# Altium footprint library HARTING Footprints.PcbLib: 317 footprints (part 6 of 20)
Each footprint in its own frame and in the unit in brackets; x right, y up, seen from the top. Pads: shape width x height; smd on the part's side, far side on the other; paste and mask are expansions set on the pad; w line width, h text height; cw(c..) or ccw(c..) is an arc to the next point about the centre after c.
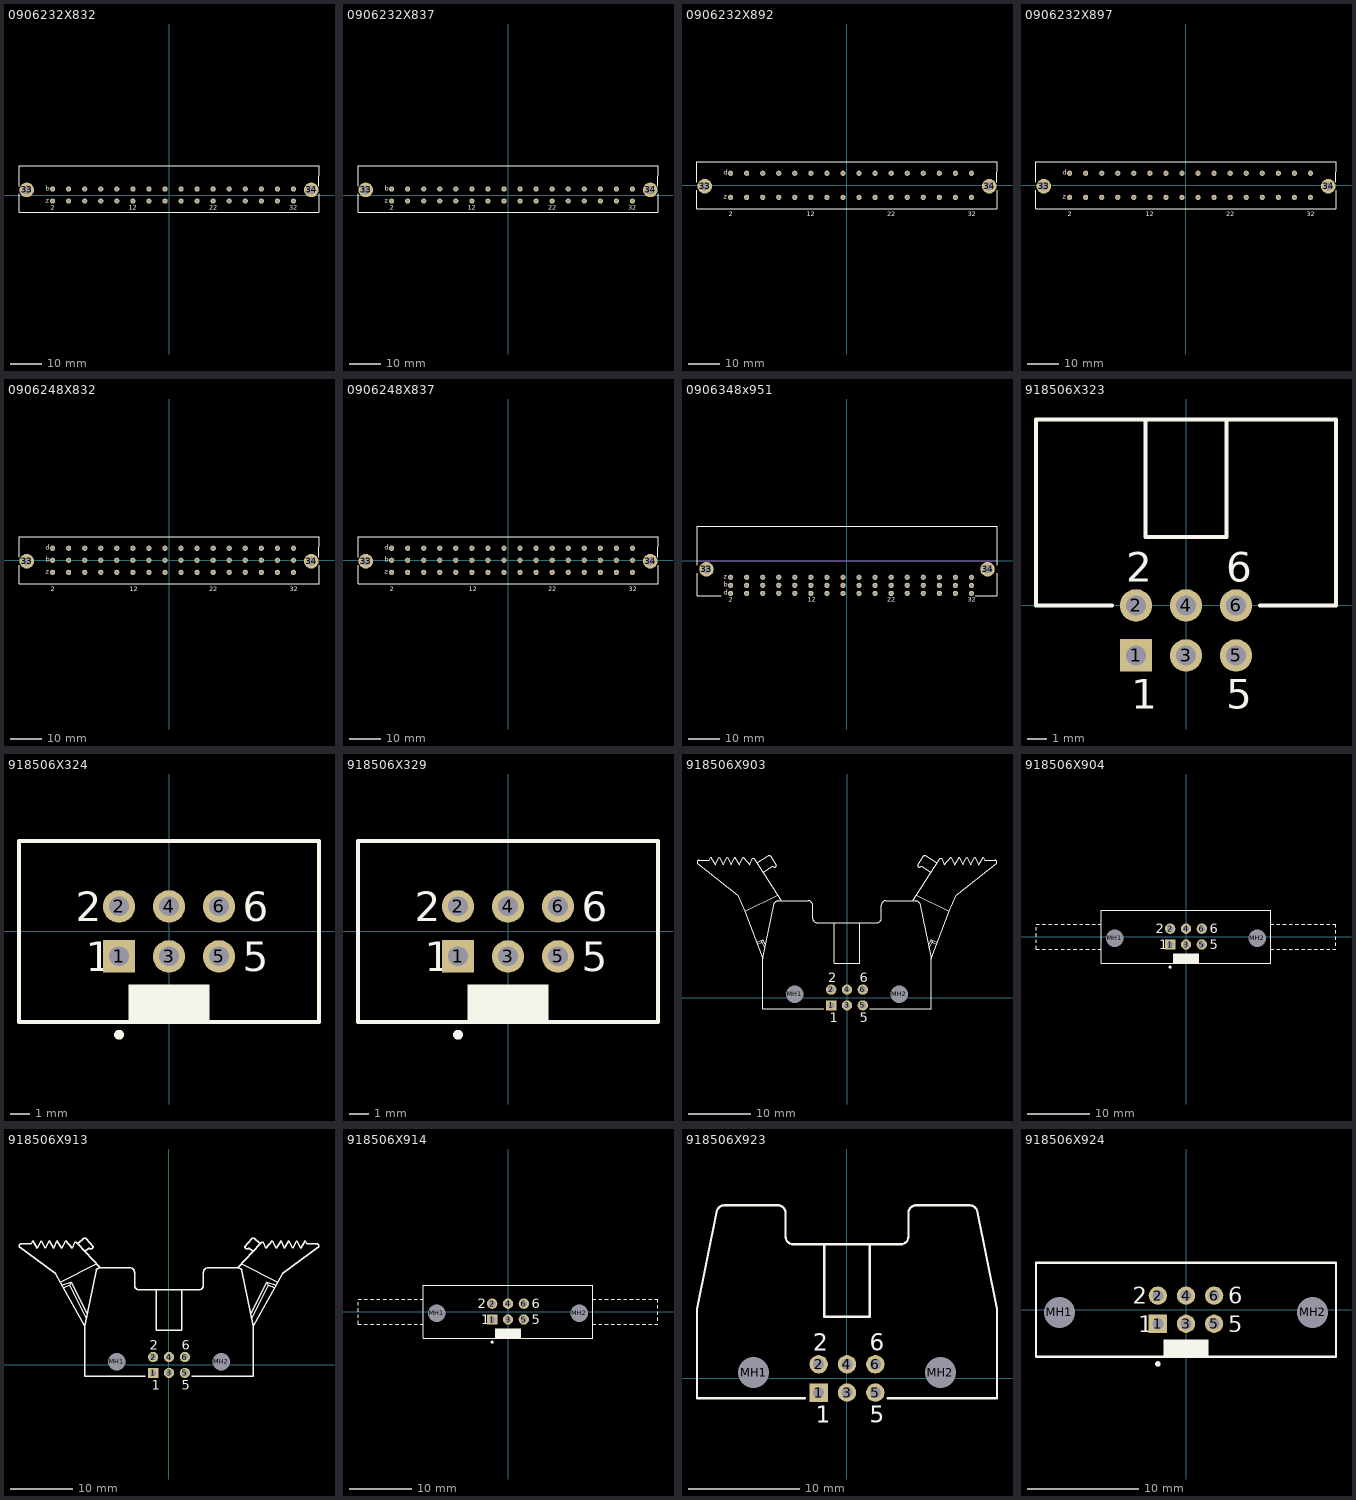
[diagram p5: the footprints below, top view; thin cyan lines are the x and y axes]

## 0906232X832 [mm] "Connector; DIN 41612, Type F, Thru-Hole; Rows z+b, 32 Position; Vertical"
height 10.1
pads (34):
  round 4.6 hole 2.8: 33(-45,1.605) 34(45,1.605)
  round 1.65 hole 1: B2(-36.83,1.905) B4(-31.75,1.905) B6(-26.67,1.905) B8(-21.59,1.905) B10(-16.51,1.905) B12(-11.43,1.905) B14(-6.35,1.905) B16(-1.27,1.905) B18(3.81,1.905) B20(8.89,1.905) B22(13.97,1.905) B24(19.05,1.905) B26(24.13,1.905) B28(29.21,1.905) B30(34.29,1.905) B32(39.37,1.905) Z2(-36.83,-1.905) Z4(-31.75,-1.905) Z6(-26.67,-1.905) Z8(-21.59,-1.905) Z10(-16.51,-1.905) Z12(-11.43,-1.905) Z14(-6.35,-1.905) Z16(-1.27,-1.905) Z18(3.81,-1.905) Z20(8.89,-1.905) Z22(13.97,-1.905) Z24(19.05,-1.905) Z26(24.13,-1.905) Z28(29.21,-1.905) Z30(34.29,-1.905) Z32(39.37,-1.905)
Top Overlay:
  lines w0.2: -47.45,0.405 -47.45,-5.495 47.45,-5.495 47.45,0.405 ; -47.45,2.805 -47.45,9.305 47.45,9.305 47.448,2.805
  text "22" at 12.7,-4.61 h1.5
  text "12" at -12.7,-4.61 h1.5
  text "32" at 38.1,-4.61 h1.5
  text "b" at -39.04,1.405 h1.5
  text "z" at -39.04,-2.405 h1.5
  text "2" at -37.33,-4.61 h1.5

## 0906232X837 [mm] "Connector; DIN 41612, Type F, Thru-Hole; Rows z+b, 32 Position; Vertical"
height 10.1
pads (34):
  round 4.6 hole 2.8: 33(-45,1.605) 34(45,1.605)
  round 1.65 hole 1: B2(-36.83,1.905) B4(-31.75,1.905) B6(-26.67,1.905) B8(-21.59,1.905) B10(-16.51,1.905) B12(-11.43,1.905) B14(-6.35,1.905) B16(-1.27,1.905) B18(3.81,1.905) B20(8.89,1.905) B22(13.97,1.905) B24(19.05,1.905) B26(24.13,1.905) B28(29.21,1.905) B30(34.29,1.905) B32(39.37,1.905) Z2(-36.83,-1.905) Z4(-31.75,-1.905) Z6(-26.67,-1.905) Z8(-21.59,-1.905) Z10(-16.51,-1.905) Z12(-11.43,-1.905) Z14(-6.35,-1.905) Z16(-1.27,-1.905) Z18(3.81,-1.905) Z20(8.89,-1.905) Z22(13.97,-1.905) Z24(19.05,-1.905) Z26(24.13,-1.905) Z28(29.21,-1.905) Z30(34.29,-1.905) Z32(39.37,-1.905)
Top Overlay:
  lines w0.2: -47.45,0.405 -47.45,-5.495 47.45,-5.495 47.45,0.405 ; -47.45,2.805 -47.45,9.305 47.45,9.305 47.448,2.805
  text "22" at 12.7,-4.61 h1.5
  text "12" at -12.7,-4.61 h1.5
  text "32" at 38.1,-4.61 h1.5
  text "b" at -39.04,1.405 h1.5
  text "z" at -39.04,-2.405 h1.5
  text "2" at -37.33,-4.61 h1.5

## 0906232X892 [mm] "Connector; DIN 41612, Type F, Thru-Hole; Rows z+d, 32 Position; Vertical"
height 10.1
pads (34):
  round 4.6 hole 2.8: 33(-45,-0.3) 34(45,-0.3)
  round 1.65 hole 1: D2(-36.83,3.81) D4(-31.75,3.81) D6(-26.67,3.81) D8(-21.59,3.81) D10(-16.51,3.81) D12(-11.43,3.81) D14(-6.35,3.81) D16(-1.27,3.81) D18(3.81,3.81) D20(8.89,3.81) D22(13.97,3.81) D24(19.05,3.81) D26(24.13,3.81) D28(29.21,3.81) D30(34.29,3.81) D32(39.37,3.81) Z2(-36.83,-3.81) Z4(-31.75,-3.81) Z6(-26.67,-3.81) Z8(-21.59,-3.81) Z10(-16.51,-3.81) Z12(-11.43,-3.81) Z14(-6.35,-3.81) Z16(-1.27,-3.81) Z18(3.81,-3.81) Z20(8.89,-3.81) Z22(13.97,-3.81) Z24(19.05,-3.81) Z26(24.13,-3.81) Z28(29.21,-3.81) Z30(34.29,-3.81) Z32(39.37,-3.81)
Top Overlay:
  lines w0.2: -47.45,-1.5 -47.45,-7.4 47.45,-7.4 47.45,-1.5 ; -47.45,0.9 -47.45,7.4 47.45,7.4 47.448,0.9
  text "2" at -37.33,-9.74 h1.5
  text "z" at -39.04,-4.31 h1.5
  text "d" at -39.04,3.31 h1.5
  text "32" at 38.12,-9.74 h1.5
  text "12" at -12.68,-9.74 h1.5
  text "22" at 12.72,-9.74 h1.5

## 0906232X897 [mm] "Connector; DIN 41612, Type F, Thru-Hole; Rows z+d, 32 Position; Vertical"
height 10.1
pads (34):
  round 4.6 hole 2.8: 33(-45,-0.3) 34(45,-0.3)
  round 1.65 hole 1: D2(-36.83,3.81) D4(-31.75,3.81) D6(-26.67,3.81) D8(-21.59,3.81) D10(-16.51,3.81) D12(-11.43,3.81) D14(-6.35,3.81) D16(-1.27,3.81) D18(3.81,3.81) D20(8.89,3.81) D22(13.97,3.81) D24(19.05,3.81) D26(24.13,3.81) D28(29.21,3.81) D30(34.29,3.81) D32(39.37,3.81) Z2(-36.83,-3.81) Z4(-31.75,-3.81) Z6(-26.67,-3.81) Z8(-21.59,-3.81) Z10(-16.51,-3.81) Z12(-11.43,-3.81) Z14(-6.35,-3.81) Z16(-1.27,-3.81) Z18(3.81,-3.81) Z20(8.89,-3.81) Z22(13.97,-3.81) Z24(19.05,-3.81) Z26(24.13,-3.81) Z28(29.21,-3.81) Z30(34.29,-3.81) Z32(39.37,-3.81)
Top Overlay:
  lines w0.2: -47.45,-1.5 -47.45,-7.4 47.45,-7.4 47.45,-1.5 ; -47.45,0.9 -47.45,7.4 47.45,7.4 47.448,0.9
  text "2" at -37.33,-9.74 h1.5
  text "z" at -39.04,-4.31 h1.5
  text "d" at -39.04,3.31 h1.5
  text "32" at 38.12,-9.74 h1.5
  text "12" at -12.68,-9.74 h1.5
  text "22" at 12.72,-9.74 h1.5

## 0906248X832 [mm] "Connector; DIN 41612, Type F, Thru-Hole; Rows z+b+d, 48 Position; Vertical"
height 10.1
pads (50):
  round 4.6 hole 2.8: 33(-45,-0.3) 34(45,-0.3)
  round 1.65 hole 1: B2(-36.83,0) B4(-31.75,0) B6(-26.67,0) B8(-21.59,0) B10(-16.51,0) B12(-11.43,0) B14(-6.35,0) B16(-1.27,0) B18(3.81,0) B20(8.89,0) B22(13.97,0) B24(19.05,0) B26(24.13,0) B28(29.21,0) B30(34.29,0) B32(39.37,0) D2(-36.83,3.81) D4(-31.75,3.81) D6(-26.67,3.81) D8(-21.59,3.81) D10(-16.51,3.81) D12(-11.43,3.81) D14(-6.35,3.81) D16(-1.27,3.81) D18(3.81,3.81) D20(8.89,3.81) D22(13.97,3.81) D24(19.05,3.81) D26(24.13,3.81) D28(29.21,3.81) D30(34.29,3.81) D32(39.37,3.81) Z2(-36.83,-3.81) Z4(-31.75,-3.81) Z6(-26.67,-3.81) Z8(-21.59,-3.81) Z10(-16.51,-3.81) Z12(-11.43,-3.81) Z14(-6.35,-3.81) Z16(-1.27,-3.81) Z18(3.81,-3.81) Z20(8.89,-3.81) Z22(13.97,-3.81) Z24(19.05,-3.81) Z26(24.13,-3.81) Z28(29.21,-3.81) Z30(34.29,-3.81) Z32(39.37,-3.81)
Top Overlay:
  lines w0.2: -47.45,-1.5 -47.45,-7.4 47.45,-7.4 47.45,-1.5 ; -47.45,0.9 -47.45,7.4 47.45,7.4 47.447,0.9
  text "2" at -37.33,-9.74 h1.5
  text "z" at -39.04,-4.31 h1.5
  text "b" at -39.04,-0.5 h1.5
  text "d" at -39.04,3.31 h1.5
  text "32" at 38.12,-9.74 h1.5
  text "12" at -12.43,-9.74 h1.5
  text "22" at 12.72,-9.74 h1.5

## 0906248X837 [mm] "Connector; DIN 41612, Type F, Thru-Hole; Rows z+b+d, 48 Position; Vertical"
height 10.1
pads (50):
  round 4.6 hole 2.8: 33(-45,-0.3) 34(45,-0.3)
  round 1.65 hole 1: B2(-36.83,0) B4(-31.75,0) B6(-26.67,0) B8(-21.59,0) B10(-16.51,0) B12(-11.43,0) B14(-6.35,0) B16(-1.27,0) B18(3.81,0) B20(8.89,0) B22(13.97,0) B24(19.05,0) B26(24.13,0) B28(29.21,0) B30(34.29,0) B32(39.37,0) D2(-36.83,3.81) D4(-31.75,3.81) D6(-26.67,3.81) D8(-21.59,3.81) D10(-16.51,3.81) D12(-11.43,3.81) D14(-6.35,3.81) D16(-1.27,3.81) D18(3.81,3.81) D20(8.89,3.81) D22(13.97,3.81) D24(19.05,3.81) D26(24.13,3.81) D28(29.21,3.81) D30(34.29,3.81) D32(39.37,3.81) Z2(-36.83,-3.81) Z4(-31.75,-3.81) Z6(-26.67,-3.81) Z8(-21.59,-3.81) Z10(-16.51,-3.81) Z12(-11.43,-3.81) Z14(-6.35,-3.81) Z16(-1.27,-3.81) Z18(3.81,-3.81) Z20(8.89,-3.81) Z22(13.97,-3.81) Z24(19.05,-3.81) Z26(24.13,-3.81) Z28(29.21,-3.81) Z30(34.29,-3.81) Z32(39.37,-3.81)
Top Overlay:
  lines w0.2: -47.45,-1.5 -47.45,-7.4 47.45,-7.4 47.45,-1.5 ; -47.45,0.9 -47.45,7.4 47.45,7.4 47.447,0.9
  text "2" at -37.33,-9.74 h1.5
  text "z" at -39.04,-4.31 h1.5
  text "b" at -39.04,-0.5 h1.5
  text "d" at -39.04,3.31 h1.5
  text "32" at 38.12,-9.74 h1.5
  text "12" at -12.43,-9.74 h1.5
  text "22" at 12.72,-9.74 h1.5

## 0906348x951 [mm] "Connector; DIN 41612, Type F, Thru-Hole; Rows z+b+d, 48 Position; Right Angle"
height 14.8
pads (50):
  round 4.6 hole 2.8: 33(-44.45,-2.76) 34(44.45,-2.76)
  round 1.65 hole 1: B2(-36.83,-7.84) B4(-31.75,-7.84) B6(-26.67,-7.84) B8(-21.59,-7.84) B10(-16.51,-7.84) B12(-11.43,-7.84) B14(-6.35,-7.84) B16(-1.27,-7.84) B18(3.81,-7.84) B20(8.89,-7.84) B22(13.97,-7.84) B24(19.05,-7.84) B26(24.13,-7.84) B28(29.21,-7.84) B30(34.29,-7.84) B32(39.37,-7.84) D2(-36.83,-10.38) D4(-31.75,-10.38) D6(-26.67,-10.38) D8(-21.59,-10.38) D10(-16.51,-10.38) D12(-11.43,-10.38) D14(-6.35,-10.38) D16(-1.27,-10.38) D18(3.81,-10.38) D20(8.89,-10.38) D22(13.97,-10.38) D24(19.05,-10.38) D26(24.13,-10.38) D28(29.21,-10.38) D30(34.29,-10.38) D32(39.37,-10.38) Z2(-36.83,-5.3) Z4(-31.75,-5.3) Z6(-26.67,-5.3) Z8(-21.59,-5.3) Z10(-16.51,-5.3) Z12(-11.43,-5.3) Z14(-6.35,-5.3) Z16(-1.27,-5.3) Z18(3.81,-5.3) Z20(8.89,-5.3) Z22(13.97,-5.3) Z24(19.05,-5.3) Z26(24.13,-5.3) Z28(29.21,-5.3) Z30(34.29,-5.3) Z32(39.37,-5.3)
Top Overlay:
  lines w0.2: -47.45,-3.96 -47.45,-11.2 -39.7,-11.2 ; -47.449,-1.56 -47.449,10.9 47.45,10.9 47.45,-1.56 ; 40.595,-11.2 47.45,-11.2 47.45,-3.96
  text "2" at -37.33,-13.08 h1.5
  text "z" at -39.04,-5.8 h1.5
  text "b" at -39.04,-8.34 h1.5
  text "d" at -39.04,-10.88 h1.5
  text "32" at 38.12,-13.08 h1.5
  text "12" at -12.43,-13.08 h1.5
  text "22" at 12.72,-13.08 h1.5
Mechanical 1:
  lines w0.1: -47.45,0 47.45,0
  text "PCB Edge" at -46.47,0.5 h0.6

## 918506X323 [mm] "Connector; IDC, Low Profile Male Header, Thru-Hole; 6 Position; Right Angle; Pitch 2.54 mm; Body 15.24 x 8.9 x 9.2 mm (LxWxH)"
height 9.2
pads (6):
  rect 1.65x1.65 hole 1: 1(-2.54,-2.54)
  round 1.65 hole 1: 2(-2.54,0) 3(0,-2.54) 4(0,0) 5(2.54,-2.54) 6(2.54,0)
Top Overlay:
  lines w0.2: -3.765,0 -7.62,0 -7.62,9.45 7.62,9.45 7.62,0 3.765,0 ; -2.05,9.45 -2.05,3.48 2.05,3.48 2.05,9.45
  text "5" at 2.04,-5.24 h1.5
  text "6" at 2.04,1.2 h1.5
  text "1" at -2.79,-5.24 h1.5
  text "2" at -3.04,1.2 h1.5

## 918506X324 [mm] "Connector; IDC, Low Profile Male Header, Thru-Hole; 6 Position; Vertical; Pitch 2.54 mm; Body 15.24 x 9.2 x 9.45 mm (LxWxH)"
height 9.45
pads (6):
  rect 1.65x1.65 hole 1: 1(-2.54,-1.27)
  round 1.65 hole 1: 2(-2.54,1.27) 3(0,-1.27) 4(0,1.27) 5(2.54,-1.27) 6(2.54,1.27)
Top Overlay:
  circle w0.25: c-2.54,-5.25 r0.125
  rectangle: -2.05,-4.6 2.05,-2.7
  lines w0.2: -7.62,-4.6 7.62,-4.6 7.62,4.6 -7.62,4.6 -7.62,-4.6
  text "5" at 3.74,-2.02 h1.5
  text "6" at 3.74,0.52 h1.5
  text "1" at -4.24,-2.02 h1.5
  text "2" at -4.74,0.52 h1.5

## 918506X329 [mm] "Connector; IDC, Straight Press-in Pin, Thru-Hole; 6 Position; Vertical; Pitch 2.54 mm; Body 15.24 x 9.2 x 9.45 mm (LxWxH)"
height 9.45
pads (6):
  rect 1.65x1.65 hole 1: 1(-2.54,-1.27)
  round 1.65 hole 1: 2(-2.54,1.27) 3(0,-1.27) 4(0,1.27) 5(2.54,-1.27) 6(2.54,1.27)
Top Overlay:
  circle w0.25: c-2.54,-5.25 r0.125
  rectangle: -2.05,-4.6 2.05,-2.7
  lines w0.2: -7.62,-4.6 7.62,-4.6 7.62,4.6 -7.62,4.6 -7.62,-4.6
  text "5" at 3.74,-2.02 h1.5
  text "6" at 3.74,0.52 h1.5
  text "1" at -4.24,-2.02 h1.5
  text "2" at -4.74,0.52 h1.5

## 918506X903 [mm] "Connector; IDC, Thru-Hole; 6 Position; Right Angle; Pitch 2.54 mm; Body 27.10 x 8.5 x 25.75 mm (LxHxW), Locking levers"
height 25.75
pads (8):
  rect 1.65x1.65 hole 1: 1(-2.54,-1.27)
  round 1.65 hole 1: 2(-2.54,1.27) 3(0,-1.27) 4(0,1.27) 5(2.54,-1.27) 6(2.54,1.27)
  round 2.5 hole 2.8 unplated: MH1(-8.38,0.53) MH2(8.38,0.53)
Top Overlay:
  lines w0.2: -14.52,8.851 -13.555,9.3 ; -14.391,8.563 -13.72,8.877 ; -14.385,21.6 -12.662,22.725 cw(c-12.513,22.387) -12.247,22.644 -11.322,21.245 cw(c-11.642,21.225) -11.694,20.91 ccw(c-11.962,20.595) -12.097,20.985 ; -13.463,20.103 -12.1,20.991 ; -13.193,7.925 -13.72,8.877 ; -13.093,8.378 -13.555,9.3 ; -11.165,16.383 -16.389,13.84 ; -10.594,15.53 -14.728,22.058 ccw(c-15.051,21.956) -15.193,22.265 -15.6,21.301 -16.63,22.501 -17.26,21.301 -18.01,22.501 -18.56,21.301 -19.26,22.501 -19.88,21.301 -20.53,22.501 -21.13,21.301 -21.875,22.501 ; -3.765,-1.77 -13.55,-1.77 -13.55,6.23 ; -2.05,5.53 -2.05,12.03 ; -2.04,5.53 2.06,5.53 ; 2.05,5.534 2.05,12.03 ; 3.65,-1.77 13.55,-1.77 13.55,6.23 ; 10.594,15.53 14.728,22.058 cw(c15.051,21.956) 15.193,22.265 15.6,21.301 16.63,22.501 17.26,21.301 18.01,22.501 18.56,21.301 19.26,22.501 19.88,21.301 20.53,22.501 21.13,21.301 21.875,22.501 ; 11.165,16.383 16.389,13.84 ; 12.097,20.985 ccw(c11.962,20.595) 11.694,20.91 cw(c11.642,21.225) 11.322,21.245 12.247,22.644 cw(c12.513,22.387) 12.662,22.725 14.385,21.6 ; 12.1,20.991 13.463,20.103 ; 13.093,8.378 13.555,9.3 ; 13.193,7.925 13.72,8.877 ; 14.391,8.563 13.72,8.877 ; 14.52,8.851 13.555,9.3 ; -22.13,22.03 -21.875,22.501 ; -22.13,22.03 -21.875,22.501 ; -22.13,22.03 -23.741,22.03 ccw(c-23.741,21.69) -24.05,21.549 -17.515,16.455 -16.389,13.84 ; -16.389,13.84 -13.55,6.23 ; -13.72,8.877 -13.555,9.3 ; -13.55,6.23 -11.647,15.097 cw(c-11,14.83) -11,15.53 -6.21,15.53 cw(c-6.21,14.83) -5.51,14.83 -5.51,12.73 ccw(c-4.81,12.73) -4.81,12.03 4.81,12.03 ccw(c4.81,12.73) 5.51,12.73 5.51,14.83 cw(c6.21,14.83) 6.21,15.53 11,15.53 cw(c11,14.83) 11.647,15.097 13.55,6.23 ; 13.55,6.23 16.389,13.84 ; 13.555,9.3 13.72,8.877 ; 16.389,13.84 17.515,16.455 24.05,21.549 ccw(c23.741,21.69) 23.741,22.03 22.13,22.03 ; 21.875,22.501 22.13,22.03 ; 21.875,22.501 22.13,22.03
  text "2" at -3.04,2.47 h1.5
  text "1" at -2.79,-3.97 h1.5
  text "6" at 2.04,2.47 h1.5
  text "5" at 2.04,-3.97 h1.5

## 918506X904 [mm] "Connector; IDC, Thru-Hole; 6 Position; Vertical; Pitch 2.54 mm; Body 27.10 x 8.5 x 25.75 mm (LxWxH), Locking levers"
height 25.75
pads (8):
  rect 1.65x1.65 hole 1: 1(-2.54,-1.27)
  round 1.65 hole 1: 2(-2.54,1.27) 3(0,-1.27) 4(0,1.27) 5(2.54,-1.27) 6(2.54,1.27)
  round 2.5 hole 2.8 unplated: MH1(-11.43,-0.25) MH2(11.43,-0.25)
Top Overlay:
  circle w0.25: c-2.54,-4.9 r0.125
  rectangle: -2.05,-4.25 2.05,-2.7
  lines w0.2: -24.05,-1 -24.05,-0.5 ; -24.05,0 -24.05,0.5 ; -24.05,1 -24.05,1.5 ; -24.05,2 -23.54,2 ; -24.04,-1.5 -24.05,-2 -23.54,-2 ; -23.04,-2 -22.54,-2 ; -23.04,2 -22.54,2 ; -22.04,-2 -21.54,-2 ; -22.04,2 -21.54,2 ; -21.04,-2 -20.54,-2 ; -21.04,2 -20.54,2 ; -20.04,-2 -19.54,-2 ; -20.04,2 -19.54,2 ; -19.04,-2 -18.54,-2 ; -19.04,2 -18.54,2 ; -18.04,-2 -17.54,-2 ; -18.04,2 -17.54,2 ; -17.04,-2 -16.54,-2 ; -17.04,2 -16.54,2 ; -16.04,-2 -15.54,-2 ; -16.04,2 -15.54,2 ; -15.04,-2 -14.54,-2 ; -15.04,2 -14.54,2 ; -14.04,-2 -13.55,-2 ; -14.04,2 -13.55,2 ; 13.55,-2 14.05,-2 ; 13.55,2 14.05,2 ; 14.55,-2 15.05,-2 ; 14.55,2 15.05,2 ; 15.55,-2 16.05,-2 ; 15.55,2 16.05,2 ; 16.55,-2 17.05,-2 ; 16.55,2 17.05,2 ; 17.55,-2 18.05,-2 ; 17.55,2 18.05,2 ; 18.55,-2 19.05,-2 ; 18.55,2 19.05,2 ; 19.55,-2 20.05,-2 ; 19.55,2 20.05,2 ; 20.55,-2 21.05,-2 ; 20.55,2 21.05,2 ; 21.55,-2 22.05,-2 ; 21.55,2 22.05,2 ; 22.55,-2 23.05,-2 ; 22.55,2 23.05,2 ; 23.55,-2 24.05,-2 ; 23.55,2 24.05,2 24.05,1.5 ; 24.05,-1.5 24.05,-1 ; 24.05,-0.5 24.05,0 ; 24.05,0.5 24.05,1 ; -13.55,-4.25 13.55,-4.25 13.55,4.25 -13.55,4.25 -13.55,-4.25
  text "5" at 3.82,-2.02 h1.5
  text "6" at 3.82,0.52 h1.5
  text "1" at -4.32,-2.02 h1.5
  text "2" at -4.82,0.52 h1.5

## 918506X913 [mm] "Connector; IDC, Thru-Hole; 6 Position; Right Angle; Pitch 2.54 mm; Body 26.90 x 8.5 x 23.30 mm (LxHxW), Locking levers"
height 23.3
pads (8):
  rect 1.65x1.65 hole 1: 1(-2.54,-1.27)
  round 1.65 hole 1: 2(-2.54,1.27) 3(0,-1.27) 4(0,1.27) 5(2.54,-1.27) 6(2.54,1.27)
  round 2.5 hole 2.8 unplated: MH1(-8.38,0.53) MH2(8.38,0.53)
Top Overlay:
  lines w0.2: -17.119,12.722 -15.631,13.218 ; -16.891,12.377 -15.873,12.716 ; -13.488,18.198 -12.923,18.617 cw(c-12.787,18.227) -12.52,18.542 ccw(c-12.467,18.857) -12.148,18.877 -13.207,20.156 ccw(c-13.473,19.899) -13.622,20.238 -14.628,19.388 ; -13.203,7.442 -15.873,12.716 ; -13.056,8.195 -15.631,13.218 ; -11.57,16.204 -17.389,13.199 ; -10.957,15.533 -14.628,19.388 ; -3.765,-1.77 -13.45,-1.77 -13.45,6.23 ; -2.05,5.53 -2.05,12.03 ; -2.04,5.53 2.06,5.53 ; 2.05,5.534 2.05,12.03 ; 3.65,-1.77 13.45,-1.77 13.45,6.23 ; 10.957,15.533 14.628,19.388 ; 11.57,16.204 17.389,13.199 ; 13.056,8.195 15.631,13.218 ; 13.203,7.442 15.873,12.716 ; 13.488,18.198 12.923,18.617 ccw(c12.787,18.227) 12.52,18.542 cw(c12.467,18.857) 12.148,18.877 13.207,20.156 cw(c13.473,19.899) 13.622,20.238 14.628,19.388 ; 16.891,12.377 15.873,12.716 ; 17.119,12.722 15.631,13.218 ; -22.03,19.359 -23.641,19.359 ccw(c-23.641,19.02) -23.95,18.879 -18.195,14.654 -17.389,13.199 ; -22.03,19.359 -21.774,19.83 ; -22.03,19.359 -21.774,19.83 ; -21.774,19.83 -21.03,18.63 -20.43,19.83 -19.78,18.63 -19.16,19.83 -18.46,18.63 -17.91,19.83 -17.16,18.63 -16.53,19.83 -15.5,18.63 -15.093,19.594 cw(c-14.951,19.285) -14.628,19.388 ; -17.389,13.199 -13.45,6.23 ; -15.873,12.716 -15.631,13.218 ; -13.45,6.23 -11.647,15.097 cw(c-11,14.83) -11,15.53 -6.21,15.53 cw(c-6.21,14.83) -5.51,14.83 -5.51,12.73 ccw(c-4.81,12.73) -4.81,12.03 4.81,12.03 ccw(c4.81,12.73) 5.51,12.73 5.51,14.83 cw(c6.21,14.83) 6.21,15.53 11,15.53 cw(c11,14.83) 11.647,15.097 13.45,6.23 ; 13.45,6.23 17.389,13.199 ; 14.628,19.388 cw(c14.951,19.285) 15.093,19.594 15.5,18.63 16.53,19.83 17.16,18.63 17.91,19.83 18.46,18.63 19.16,19.83 19.78,18.63 20.43,19.83 21.03,18.63 21.775,19.83 ; 15.631,13.218 15.873,12.716 ; 17.389,13.199 18.195,14.654 23.95,18.879 ccw(c23.641,19.02) 23.641,19.359 22.03,19.359 ; 21.775,19.83 22.03,19.359 ; 21.775,19.83 22.03,19.359
  text "2" at -3.04,2.47 h1.5
  text "1" at -2.79,-3.97 h1.5
  text "6" at 2.04,2.47 h1.5
  text "5" at 2.04,-3.97 h1.5

## 918506X914 [mm] "Connector; IDC, Thru-Hole; 6 Position; Vertical; Pitch 2.54 mm; Body 26.90 x 8.5 x 23.30 mm (LxWxH), Locking levers"
height 23.3
pads (8):
  rect 1.65x1.65 hole 1: 1(-2.54,-1.27)
  round 1.65 hole 1: 2(-2.54,1.27) 3(0,-1.27) 4(0,1.27) 5(2.54,-1.27) 6(2.54,1.27)
  round 2.5 hole 2.8 unplated: MH1(-11.43,-0.25) MH2(11.43,-0.25)
Top Overlay:
  circle w0.25: c-2.54,-4.9 r0.125
  rectangle: -2.05,-4.25 2.05,-2.7
  lines w0.2: -24.05,-1 -24.05,-0.5 ; -24.05,0 -24.05,0.5 ; -24.05,1 -24.05,1.5 ; -24.05,2 -23.54,2 ; -24.04,-1.5 -24.05,-2 -23.54,-2 ; -23.04,-2 -22.54,-2 ; -23.04,2 -22.54,2 ; -22.04,-2 -21.54,-2 ; -22.04,2 -21.54,2 ; -21.04,-2 -20.54,-2 ; -21.04,2 -20.54,2 ; -20.04,-2 -19.54,-2 ; -20.04,2 -19.54,2 ; -19.04,-2 -18.54,-2 ; -19.04,2 -18.54,2 ; -18.04,-2 -17.54,-2 ; -18.04,2 -17.54,2 ; -17.04,-2 -16.54,-2 ; -17.04,2 -16.54,2 ; -16.04,-2 -15.54,-2 ; -16.04,2 -15.54,2 ; -15.04,-2 -14.54,-2 ; -15.04,2 -14.54,2 ; -14.04,-2 -13.55,-2 ; -14.04,2 -13.55,2 ; 13.55,-2 14.05,-2 ; 13.55,2 14.05,2 ; 14.55,-2 15.05,-2 ; 14.55,2 15.05,2 ; 15.55,-2 16.05,-2 ; 15.55,2 16.05,2 ; 16.55,-2 17.05,-2 ; 16.55,2 17.05,2 ; 17.55,-2 18.05,-2 ; 17.55,2 18.05,2 ; 18.55,-2 19.05,-2 ; 18.55,2 19.05,2 ; 19.55,-2 20.05,-2 ; 19.55,2 20.05,2 ; 20.55,-2 21.05,-2 ; 20.55,2 21.05,2 ; 21.55,-2 22.05,-2 ; 21.55,2 22.05,2 ; 22.55,-2 23.05,-2 ; 22.55,2 23.05,2 ; 23.55,-2 24.05,-2 ; 23.55,2 24.05,2 24.05,1.5 ; 24.05,-1.5 24.05,-1 ; 24.05,-0.5 24.05,0 ; 24.05,0.5 24.05,1 ; -13.55,-4.25 13.55,-4.25 13.55,4.25 -13.55,4.25 -13.55,-4.25
  text "5" at 3.82,-2.02 h1.5
  text "6" at 3.82,0.52 h1.5
  text "1" at -4.32,-2.02 h1.5
  text "2" at -4.82,0.52 h1.5

## 918506X923 [mm] "Connector; IDC, Thru-Hole; 6 Position; Right Angle; Pitch 2.54 mm; Body 26.90 x 8.5 x 17.30 mm (LxHxW), Without locking levers"
height 17.3
pads (8):
  rect 1.65x1.65 hole 1: 1(-2.54,-1.27)
  round 1.65 hole 1: 2(-2.54,1.27) 3(0,-1.27) 4(0,1.27) 5(2.54,-1.27) 6(2.54,1.27)
  round 2.5 hole 2.8 unplated: MH1(-8.38,0.53) MH2(8.38,0.53)
Top Overlay:
  lines w0.2: -3.765,-1.77 -13.45,-1.77 -13.45,6.23 -11.647,15.097 cw(c-11,14.83) -11,15.53 -6.21,15.53 cw(c-6.21,14.83) -5.51,14.83 -5.51,12.73 ccw(c-4.81,12.73) -4.81,12.03 4.81,12.03 ccw(c4.81,12.73) 5.51,12.73 5.51,14.83 cw(c6.21,14.83) 6.21,15.53 11,15.53 cw(c11,14.83) 11.647,15.097 13.45,6.23 13.45,-1.77 3.65,-1.77 ; -2.05,5.53 -2.05,12.03 ; -2.04,5.53 2.06,5.53 ; 2.05,5.534 2.05,12.03
  text "2" at -3.04,2.47 h1.5
  text "1" at -2.79,-3.97 h1.5
  text "6" at 2.04,2.47 h1.5
  text "5" at 2.04,-3.97 h1.5

## 918506X924 [mm] "Connector; IDC, Thru-Hole; 6 Position; Vertical; Pitch 2.54 mm; Body 26.90 x 8.5 x 17.30 mm (LxWxH), Without locking levers"
height 17.3
pads (8):
  rect 1.65x1.65 hole 1: 1(-2.54,-1.27)
  round 1.65 hole 1: 2(-2.54,1.27) 3(0,-1.27) 4(0,1.27) 5(2.54,-1.27) 6(2.54,1.27)
  round 2.5 hole 2.8 unplated: MH1(-11.43,-0.25) MH2(11.43,-0.25)
Top Overlay:
  circle w0.25: c-2.54,-4.9 r0.125
  rectangle: -2.05,-4.25 2.05,-2.7
  lines w0.2: -13.55,-4.25 13.55,-4.25 13.55,4.25 -13.55,4.25 -13.55,-4.25
  text "5" at 3.82,-2.02 h1.5
  text "6" at 3.82,0.52 h1.5
  text "1" at -4.32,-2.02 h1.5
  text "2" at -4.82,0.52 h1.5